# Altium footprint library SMD_L3.0-W3.0-P1.00(AHT21).PcbLib: 1 footprints
Each footprint in its own frame and in the unit in brackets; x right, y up, seen from the top. Pads: shape width x height; smd on the part's side, far side on the other; paste and mask are expansions set on the pad; w line width, h text height; cw(c..) or ccw(c..) is an arc to the next point about the centre after c.
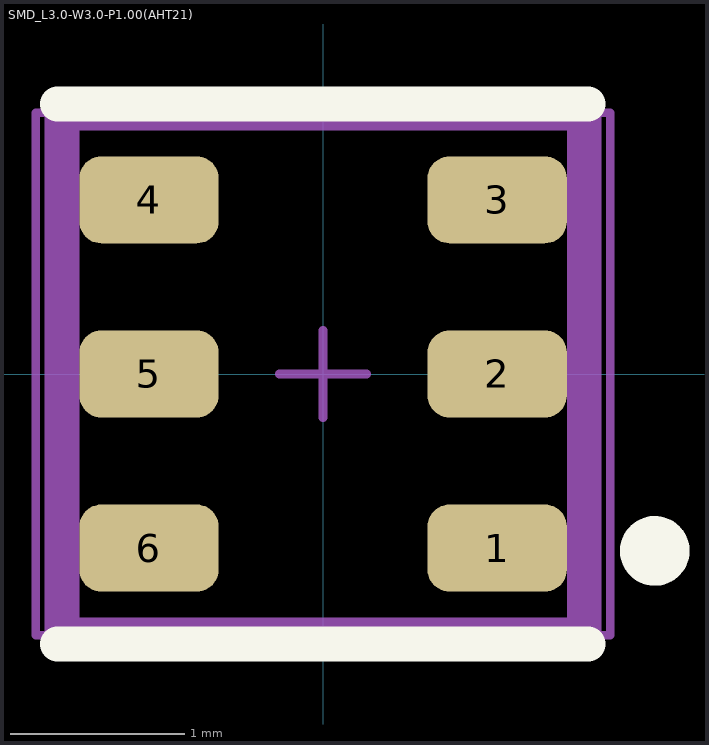
[diagram p0: the footprint, top view; thin cyan lines are the x and y axes]

## SMD_L3.0-W3.0-P1.00(AHT21) [mm]
pads (6):
  rrect50% 0.8x0.5 smd paste+0 mask+0.05: 1(1,-1) 2(1,0) 3(1,1) 4(-1,1) 5(-1,0) 6(-1,-1)
Top Overlay:
  circle w0.2: c1.905,-1.016 r0.1
  lines w0.2: -1.525,-1.55 1.523,-1.55 ; -1.525,1.55 1.523,1.55
Top 3D Body (Mech13):
  lines w0.2: -1.5,-1.5 1.5,-1.5 1.5,1.5 -1.5,1.5 -1.5,-1.5
Mechanical 15:
  lines w0.05: -0.25,0 0.25,0 ; 0,-0.25 0,0.25 ; -1.65,-1.5 1.65,-1.5 1.65,1.5 -1.65,1.5 -1.65,-1.5
3D body "AHT21.stp": height 0.81, standoff 0.01, extent -1.5,-1.5 1.5,1.5